# Altium footprint library 1-406541-5.PcbLib: 1 footprints
Each footprint in its own frame and in the unit in brackets; x right, y up, seen from the top. Pads: shape width x height; smd on the part's side, far side on the other; paste and mask are expansions set on the pad; w line width, h text height; cw(c..) or ccw(c..) is an arc to the next point about the centre after c.
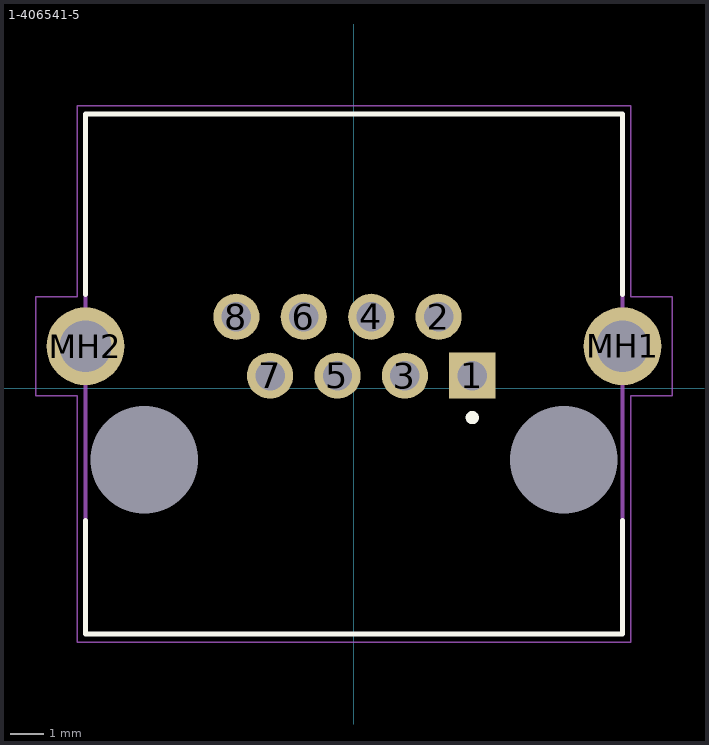
[diagram p0: the footprint, top view; thin cyan lines are the x and y axes]

## 1-406541-5 [mm]
pads (12):
  rect 1.398x1.398 hole 0.89: 1(3.58,0.38)
  round 1.398 hole 0.89: 2(2.56,2.16) 3(1.54,0.38) 4(0.52,2.16) 5(-0.5,0.38) 6(-1.52,2.16) 7(-2.54,0.38) 8(-3.56,2.16)
  round 2.355 hole 1.57: MH1(8.13,1.27) MH2(-8.13,1.27)
  round 0 hole 3.25 unplated mask+1.725: ""(-6.35,-2.16) ""(6.35,-2.16)
Top Overlay:
  circle w0.2: c3.58,-0.89 r0.1
  lines w0.15: -8.13,-4 -8.13,-7.44 8.13,-7.44 8.13,-4 ; -8.13,2.84 -8.13,8.3 8.13,8.3 8.13,2.84
Mechanical 13:
  lines w0.127: -8.13,-7.44 -8.13,8.3 8.13,8.3 8.13,-7.44 -8.13,-7.44
Mechanical 15:
  lines w0.05: -9.63,-0.23 -9.63,2.77 -8.38,2.77 -8.38,8.55 8.38,8.55 8.38,2.77 9.63,2.77 9.63,-0.23 8.38,-0.23 8.38,-7.69 -8.38,-7.69 -8.38,-0.23 -9.63,-0.23
3D body "1-406541-5.stp": height 13.4, standoff -4.15, extent -8.144,-7.445 8.13,8.303